# EAGLE library part 9PIN (library JST_ePH)
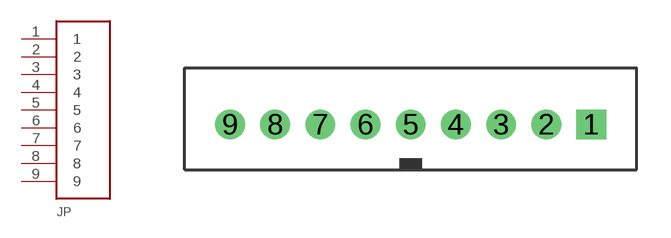
[diagram p3: symbol with the pads of B9B-PH-K-S; footprint B9B-PH-K-S]

Designator prefix JP

## 9PIN  [B9B-PH-K-S]
1  1
2  2
3  3
4  4
5  5
6  6
7  7
8  8
9  9

## Footprint B9B-PH-K-S (pad centres in mm)
drill 0.813 square: 1 8,0
drill 0.813 round: 2 6,0; 3 4,0; 4 2,0; 5 0,0; 6 -2,0; 7 -4,0; 8 -6,0; 9 -8,0